# Altium integrated library Connector_Type_C_Female_4Pin.IntLib: 1 symbol
Pins are listed as number, name and electrical type; pins without a type are passive.

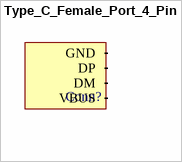
[diagram p0: symbol Type_C_Female_Port_4_Pin]

## Type_C_Female_Port_4_Pin
designator Conn?
footprint Type_C_Female_Port_4_Pin
pins: DM, DP, GND, VBUS